# Altium schematic symbol library Преобразователи питания.SchLib: 11 symbols
Pins are listed as number, name and electrical type; pins without a type are passive.

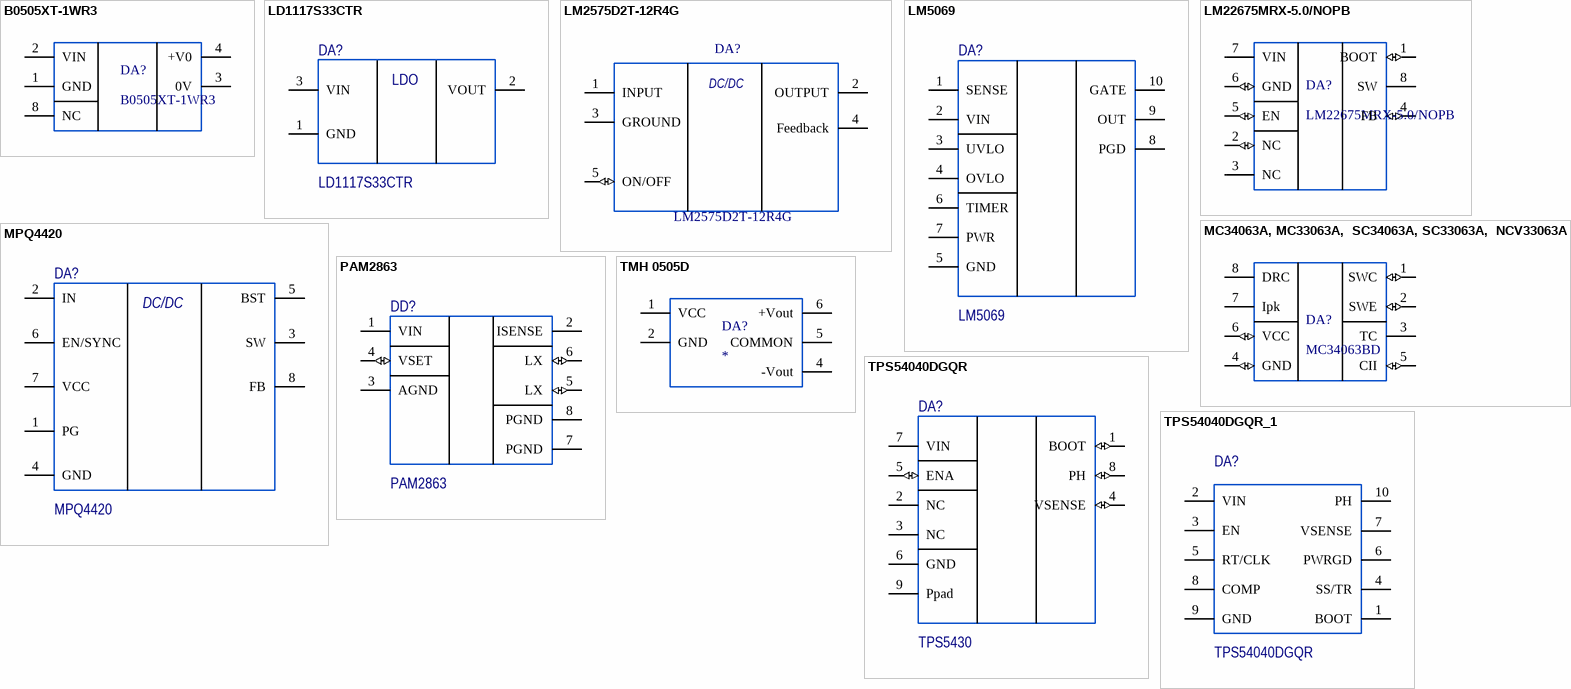
[diagram p0: symbols B0505XT-1WR3 to TPS54040DGQR_1]

## B0505XT-1WR3
designator DA?
5.5V 200MA 5V 1 SMD-8 POWER MODULES ROHS; Alternative part: C30338; Value: B0505XT-1WR3; Part: B0505XT-1WR3; ComponentLink1Description: New link; ComponentLink1URL: https://jlcpcb.com/parts/componentSearch?isSearch=true&searchTxt=HCNR201-000E
pins: 1 GND "POWER", 2 VIN "POWER", 3 0V "POWER", 4 +V0 "POWER", 8 NC "POWER"

## LD1117S33CTR
designator DA?
15V 1.3V @ 800mA - - Fixed 3.3V SOT-223 Linear Voltage Regulators (LDO) ROHS; Part: C35879; Value: LD1117S33CTR; Alternative part: *; ComponentLink1Description: Link; ComponentLink1URL: *; ComponentLink2Description: New link 1; ComponentLink2URL: *
footprint SOT-223 (SOT223, 4-Leads, Body 6,50x7,00mm (avg), Pitch 2,30mm, IPC Medium Density)
pins: 1 GND "POWER", 2 VOUT "POWER", 3 VIN "POWER"
text: LDO

## LM2575D2T-12R4G
designator DA?
1A 40V TO-263-5 DC-DC Converters ROHS; Part: C70335; Value: LM2575D2T-12R4G; Alternative part: LM2575D2T-12R4G; ComponentLink1Description: New link; ComponentLink1URL: *
footprint TO-263 (D2-PAK, 6-Pads, Body 7,93x8,46mm (max), IPC Medium Density)
pins: 1 INPUT "POWER", 2 OUTPUT "POWER", 3 GROUND "POWER", 4 Feedback "POWER", 5 ON/OFF (io) "Input"
text: DC/DC

## LM5069
designator DA?
Positive High-Voltage Hot Swap and In-Rush Current Controller / with Power Limiting; Value: LM5069; Part: *; Alternative part: *; ComponentLink1Description: New link; ComponentLink1URL: *
footprint VSSOP
pins: 1 SENSE "POWER", 2 VIN "POWER", 3 UVLO "POWER", 4 OVLO "POWER", 5 GND "POWER", 6 TIMER "POWER", 7 PWR "POWER", 8 PGD "POWER", 9 OUT "POWER", 10 GATE "POWER"

## LM22675MRX-5.0/NOPB
designator DA?
Part: C431550; Value: LM22675MRX-5.0/NOPB; Alternative part: LM22675MRX-5.0/NOPB; ComponentLink1Description: New link; ComponentLink1URL: https://datasheet.lcsc.com/lcsc/1912141433_Texas-Instruments-LM22675MRX-5.0-NOPB_C431550.pdf
footprint SOIC-8 (SOIC, 8-Leads, Body 4,90x3,90mm, Pitch 1,27mm, IPC Medium Density)
pins: 1 BOOT (io) "IO", 2 NC (io) "IO", 3 NC "POWER", 4 FB (io) "IO", 5 EN (io) "IO", 6 GND (io) "IO", 7 VIN "POWER", 8 SW "POWER"

## MC34063A, MC33063A,  SC34063A, SC33063A,  NCV33063A
designator DA?, comment MC34063BD
1.5A 40V SOIC-8_150mil DC-DC Converters ROHS; Alternative part: C126079; Value: MC34063BD; Part: *
footprint SOIC-8 (SOIC, 8-Leads, Body 4,90x3,90mm, Pitch 1,27mm, IPC Medium Density)
pins: 1 SWC (io) "IO", 2 SWE (io) "IO", 3 TC "POWER", 4 GND (io) "IO", 5 CII (io) "IO", 6 VCC (io) "IO", 7 Ipk "POWER", 8 DRC "POWER"

## MPQ4420
designator DA?
The MPQ4420 is a high-frequency, synchronous, rectified, step-down, switch-mode converter with built-in power MOSFETs. It offers a very compact solution to achieve a 2A continuous output current with excellent load and line regulation over a wide input supply range. The MPQ4420 has synchronous mode operation for higher efficiency over the output current load range. Current-mode operation provides fast transient response and eases loop stabilization. Full protection features include over-current protection and thermal shut down. The MPQ4420 requires a minimal number of readily-available standard external components, and is available in a space-saving 8-pin TSOT23 package.; Value: MPQ4420; Part: https://eu.mouser.com/ProductDetail/Monolithic-Power-Systems-MPS/MPQ4420AGJ-AEC1-P?qs=BHWkRorfSmUZRxLyvYDZRA%3D%3D; Alternative part: *
footprint TSOT23-8
pins: 1 PG "POWER", 2 IN "POWER", 3 SW "POWER", 4 GND "POWER", 5 BST "POWER", 6 EN/SYNC "POWER", 7 VCC "POWER", 8 FB "POWER"
text: DC/DC

## PAM2863
designator DD?
2A LED DRIVER with INTERNAL SWITCH; Value: PAM2863; Part: *; Alternative part: *; ComponentLink1Description: Link; ComponentLink1URL: *; ComponentLink2Description: Alternative link; ComponentLink2URL: *
footprint PSOP-8
pins: 1 VIN (power) "POWER", 2 ISENSE (power) "POWER", 3 AGND (power) "POWER", 4 VSET (io) "I/O", 5 LX (io) "I/O", 6 LX (io) "I/O", 7 PGND (power) "POWER", 8 PGND (power) "POWER"

## TMH 0505D
designator DA?
TRACO ELECTRONIC AG (TRACO); Part: 196859; Value: TMH 0505D; Alternative part: *; ComponentLink1Description: New link; ComponentLink1URL: https://kazan.terraelectronica.ru/product/196859
pins: 1 VCC "POWER", 2 GND "POWER", 4 -Vout "POWER", 5 COMMON "POWER", 6 +Vout "POWER"

## TPS54040DGQR
designator DA?, comment TPS5430
5.5V to 36V Input, 3A, 500kHz Step-Down Converter; Value: TPS5430; Part: *; Alternative part: *; ComponentLink1Description: Link; ComponentLink1URL: *; ComponentLink2Description: Alternative link; ComponentLink2URL: *
footprint SOIC-8
pins: 1 BOOT (io) "I/O", 2 NC "passive", 3 NC "passive", 4 VSENSE (io) "I/O", 5 ENA (io) "I/O", 6 GND (power) "POWER", 7 VIN (power) "POWER", 8 PH (io) "I/O", 9 Ppad (power) "POWER"

## TPS54040DGQR_1
designator DA?, comment TPS54040DGQR
500mA 42V MSOP-10_EP DC-DC Converters ROHS; Part: C138718; Alternative part: 422548; Value: TPS54040DGQR; ComponentLink1Description: Link; ComponentLink1URL: *; ComponentLink2Description: Alternative link; ComponentLink2URL: *
footprint MSOP-10_3.0x3.0x0.5P
pins: 1 BOOT (power), 2 VIN (power), 3 EN (power), 4 SS/TR (power), 5 RT/CLK (power), 6 PWRGD (power), 7 VSENSE (power), 8 COMP (power), 9 GND (power), 10 PH (power)